# Altium footprint library SamacSys.PcbLib: 47 footprints (part 3 of 3)
Each footprint in its own frame and in the unit in brackets; x right, y up, seen from the top. Pads: shape width x height; smd on the part's side, far side on the other; paste and mask are expansions set on the pad; w line width, h text height; cw(c..) or ccw(c..) is an arc to the next point about the centre after c.
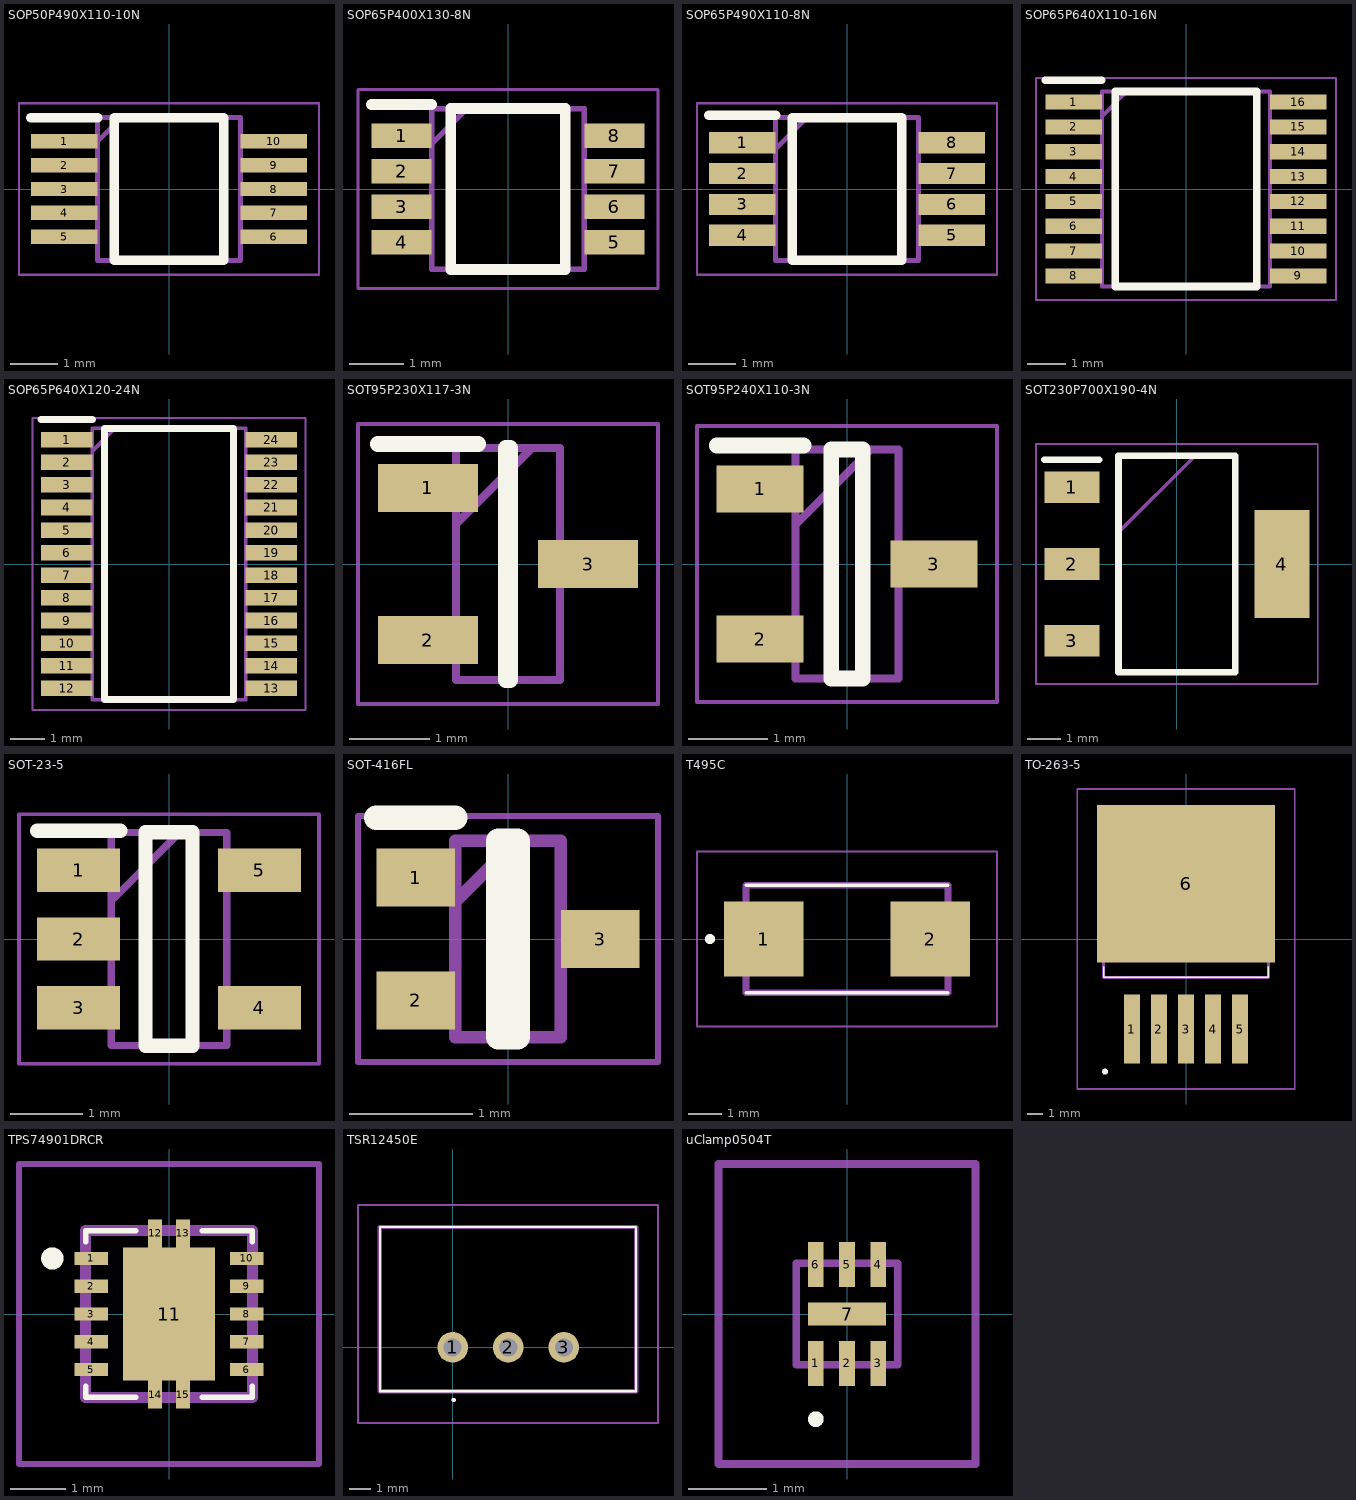
[diagram p2: the footprints below, top view; thin cyan lines are the x and y axes]

## SOP50P490X110-10N [mm]
pads (10):
  rect 1.4x0.3 smd: 1(-2.2,1) 2(-2.2,0.5) 3(-2.2,0) 4(-2.2,-0.5) 5(-2.2,-1) 6(2.2,-1) 7(2.2,-0.5) 8(2.2,0) 9(2.2,0.5) 10(2.2,1)
Top Overlay:
  lines w0.2: -2.9,1.5 -1.5,1.5 ; -1.15,-1.5 -1.15,1.5 1.15,1.5 1.15,-1.5 -1.15,-1.5
Mechanical 13:
  lines w0.1: -1.5,1 -1,1.5 ; -1.5,-1.5 -1.5,1.5 1.5,1.5 1.5,-1.5 -1.5,-1.5
Mechanical 15:
  lines w0.05: -3.15,-1.8 -3.15,1.8 3.15,1.8 3.15,-1.8 -3.15,-1.8
3D body "TCA9537DGSR.stp": height 1.1, standoff 0, extent -2.45,-1.5 2.45,1.5

## SOP65P400X130-8N [mm]
pads (8):
  rect 1.1x0.45 smd: 1(-1.95,0.975) 2(-1.95,0.325) 3(-1.95,-0.325) 4(-1.95,-0.975) 5(1.95,-0.975) 6(1.95,-0.325) 7(1.95,0.325) 8(1.95,0.975)
Top Overlay:
  lines w0.2: -2.5,1.55 -1.4,1.55 ; -1.05,-1.475 1.05,-1.475 1.05,1.475 -1.05,1.475 -1.05,-1.475
Mechanical 13:
  lines w0.1: -1.4,0.825 -0.75,1.475 ; -1.4,-1.475 1.4,-1.475 1.4,1.475 -1.4,1.475 -1.4,-1.475
Mechanical 15:
  lines w0.05: -2.75,-1.825 2.75,-1.825 2.75,1.825 -2.75,1.825 -2.75,-1.825
3D body "PCA9306DCTR.stp": height 1.3, standoff 0, extent -2,-1.475 2,1.475

## SOP65P490X110-8N [mm]
pads (8):
  rect 1.4x0.45 smd: 1(-2.2,0.975) 2(-2.2,0.325) 3(-2.2,-0.325) 4(-2.2,-0.975) 5(2.2,-0.975) 6(2.2,-0.325) 7(2.2,0.325) 8(2.2,0.975)
Top Overlay:
  lines w0.2: -2.9,1.55 -1.5,1.55 ; -1.15,-1.5 1.15,-1.5 1.15,1.5 -1.15,1.5 -1.15,-1.5
Mechanical 13:
  lines w0.1: -1.5,0.85 -0.85,1.5 ; -1.5,-1.5 1.5,-1.5 1.5,1.5 -1.5,1.5 -1.5,-1.5
Mechanical 15:
  lines w0.05: -3.15,-1.8 3.15,-1.8 3.15,1.8 -3.15,1.8 -3.15,-1.8
3D body "LM3488MM_NOPB.stp": height 1.1, standoff 0, extent -2.451,-1.499 2.451,1.499

## SOP65P640X110-16N [mm]
pads (16):
  rect 1.475x0.4 smd: 1(-2.938,2.275) 2(-2.938,1.625) 3(-2.938,0.975) 4(-2.938,0.325) 5(-2.938,-0.325) 6(-2.938,-0.975) 7(-2.938,-1.625) 8(-2.938,-2.275) 9(2.938,-2.275) 10(2.938,-1.625) 11(2.938,-0.975) 12(2.938,-0.325) 13(2.938,0.325) 14(2.938,0.975) 15(2.938,1.625) 16(2.938,2.275)
Top Overlay:
  lines w0.2: -3.675,2.85 -2.2,2.85 ; -1.85,-2.55 -1.85,2.55 1.85,2.55 1.85,-2.55 -1.85,-2.55
Mechanical 13:
  lines w0.1: -2.2,1.9 -1.55,2.55 ; -2.2,-2.55 -2.2,2.55 2.2,2.55 2.2,-2.55 -2.2,-2.55
Mechanical 15:
  lines w0.05: -3.925,-2.9 -3.925,2.9 3.925,2.9 3.925,-2.9 -3.925,-2.9
3D body "S-8254AAMFT-TB-U.stp": height 1.1, standoff 0, extent -3.2,-2.55 3.2,2.55

## SOP65P640X120-24N [mm]
pads (24):
  rect 1.475x0.45 smd: 1(-2.938,3.575) 2(-2.938,2.925) 3(-2.938,2.275) 4(-2.938,1.625) 5(-2.938,0.975) 6(-2.938,0.325) 7(-2.938,-0.325) 8(-2.938,-0.975) 9(-2.938,-1.625) 10(-2.938,-2.275) 11(-2.938,-2.925) 12(-2.938,-3.575) 13(2.938,-3.575) 14(2.938,-2.925) 15(2.938,-2.275) 16(2.938,-1.625) 17(2.938,-0.975) 18(2.938,-0.325) 19(2.938,0.325) 20(2.938,0.975) 21(2.938,1.625) 22(2.938,2.275) 23(2.938,2.925) 24(2.938,3.575)
Top Overlay:
  lines w0.2: -3.675,4.15 -2.2,4.15 ; -1.85,-3.9 1.85,-3.9 1.85,3.9 -1.85,3.9 -1.85,-3.9
Mechanical 13:
  lines w0.1: -2.2,3.25 -1.55,3.9 ; -2.2,-3.9 2.2,-3.9 2.2,3.9 -2.2,3.9 -2.2,-3.9
Mechanical 15:
  lines w0.05: -3.925,-4.2 3.925,-4.2 3.925,4.2 -3.925,4.2 -3.925,-4.2
3D body "TCA9548APW.stp": height 1.13, standoff 0, extent -3.2,-3.9 3.2,3.9

## SOT95P230X117-3N [mm]
pads (3):
  rect 1.25x0.6 smd: 1(-1,0.95) 2(-1,-0.95) 3(1,0)
Top Overlay:
  lines w0.2: -1.625,1.5 -0.375,1.5 ; -0.025,-1.45 0.025,-1.45 0.025,1.45 -0.025,1.45 -0.025,-1.45
Mechanical 13:
  lines w0.1: -0.65,0.5 0.3,1.45 ; -0.65,-1.45 0.65,-1.45 0.65,1.45 -0.65,1.45 -0.65,-1.45
Mechanical 15:
  lines w0.05: -1.875,-1.75 1.875,-1.75 1.875,1.75 -1.875,1.75 -1.875,-1.75
3D body "CDSOT23-SM712.stp": height 1.17, standoff 0, extent -1.148,-1.45 1.148,1.45

## SOT95P240X110-3N [mm]
pads (3):
  rect 1.1x0.6 smd: 1(-1.1,0.95) 2(-1.1,-0.95) 3(1.1,0)
Top Overlay:
  lines w0.2: -1.65,1.5 -0.55,1.5 ; -0.2,-1.45 0.2,-1.45 0.2,1.45 -0.2,1.45 -0.2,-1.45
Mechanical 13:
  lines w0.1: -0.65,0.5 0.3,1.45 ; -0.65,-1.45 0.65,-1.45 0.65,1.45 -0.65,1.45 -0.65,-1.45
Mechanical 15:
  lines w0.05: -1.9,-1.75 1.9,-1.75 1.9,1.75 -1.9,1.75 -1.9,-1.75
3D body "MMBT3904.stp": height 1.1, standoff 0, extent -1.2,-1.45 1.2,1.45

## SOT230P700X190-4N [mm]
pads (4):
  rect 1.65x0.95 smd: 1(-3.15,2.3) 2(-3.15,0) 3(-3.15,-2.3)
  rect 1.65x3.25 smd: 4(3.15,0)
Top Overlay:
  lines w0.2: -3.975,3.125 -2.325,3.125 ; -1.75,-3.25 1.75,-3.25 1.75,3.25 -1.75,3.25 -1.75,-3.25
Mechanical 13:
  lines w0.1: -1.75,0.95 0.55,3.25 ; -1.75,-3.25 1.75,-3.25 1.75,3.25 -1.75,3.25 -1.75,-3.25
Mechanical 15:
  lines w0.05: -4.225,-3.6 4.225,-3.6 4.225,3.6 -4.225,3.6 -4.225,-3.6
3D body "LD1117AS33TR.stp": height 1.9, standoff 0, extent -3.5,-3.25 3.5,3.25

## SOT-23-5 [mm]
pads (5):
  rect 1.15x0.6 smd: 1(-1.25,0.95) 2(-1.25,0) 3(-1.25,-0.95) 4(1.25,-0.95) 5(1.25,0.95)
Top Overlay:
  lines w0.2: -1.825,1.5 -0.675,1.5 ; -0.325,-1.475 -0.325,1.475 0.325,1.475 0.325,-1.475 -0.325,-1.475
Mechanical 13:
  lines w0.1: -0.8,0.525 0.15,1.475 ; -0.8,-1.475 -0.8,1.475 0.8,1.475 0.8,-1.475 -0.8,-1.475
Mechanical 15:
  lines w0.05: -2.075,-1.725 -2.075,1.725 2.075,1.725 2.075,-1.725 -2.075,-1.725
3D body "LDK120M-R.stp": height 1.45, standoff 0, extent -1.4,-1.475 1.4,1.475

## SOT-416FL [mm]
pads (3):
  rect 0.64x0.47 smd: 1(-0.75,0.5) 2(-0.75,-0.5) 3(0.75,0)
Top Overlay:
  lines w0.2: -1.07,0.985 -0.43,0.985 ; -0.08,-0.8 -0.08,0.8 0.08,0.8 0.08,-0.8 -0.08,-0.8
Mechanical 13:
  lines w0.1: -0.43,0.3 0.07,0.8 ; -0.43,-0.8 -0.43,0.8 0.43,0.8 0.43,-0.8 -0.43,-0.8
Mechanical 15:
  lines w0.05: -1.22,-1 -1.22,1 1.22,1 1.22,-1 -1.22,-1
3D body "DTC043ZEBTL.stp": height 0.85, standoff 0, extent -0.8,-0.8 0.8,0.8

## T495C [mm]
pads (2):
  rect 2.37x2.23 smd: 1(-2.47,0) 2(2.47,0)
Top Overlay:
  circle w0.2: c-4.07,0 r0.05
  lines w0.1: -3,-1.6 3,-1.6 ; -3,1.6 3,1.6
Mechanical 13:
  lines w0.2: -3,-1.6 3,-1.6 3,1.6 -3,1.6 -3,-1.6
Mechanical 15:
  lines w0.05: -4.455,-2.6 4.455,-2.6 4.455,2.6 -4.455,2.6 -4.455,-2.6
3D body "T495C475K035ATE450.stp": height 2.81, standoff 0, extent -3.15,-1.75 3.15,1.75

## TO-263-5 [mm]
pads (6):
  rect 1.02x4.318 smd: 1(-3.4,-5.664) 2(-1.7,-5.664) 3(0,-5.664) 4(1.7,-5.664) 5(3.4,-5.664)
  rect 11.176x9.906 smd: 6(0,3.482)
Top Overlay:
  lines w0.1: -5.181,-1.743 -5.181,-2.412 5.181,-2.412 5.181,-1.743
  lines w0.2: -5.001,-8.343 cw(c-5.091,-8.343) -5.181,-8.343 cw(c-5.09,-8.343) -4.999,-8.343
Mechanical 13:
  lines w0.2: -5.181,-2.412 -5.181,6.757 5.181,6.757 5.181,-2.412 -5.181,-2.412
Mechanical 15:
  lines w0.1: -6.842,-9.433 -6.842,9.433 6.842,9.433 6.842,-9.433 -6.842,-9.433
3D body "MIC29302WU-TR.stp": height 4.42, standoff 0, extent -5.029,-7.306 5.029,7.299

## TPS74901DRCR [mm]
pads (15):
  rect 0.6x0.24 smd: 1(-1.4,1) 2(-1.4,0.5) 3(-1.4,0) 4(-1.4,-0.5) 5(-1.4,-1) 6(1.4,-1) 7(1.4,-0.5) 8(1.4,0) 9(1.4,0.5) 10(1.4,1)
  rect 1.65x2.4 smd: 11(0,0)
  rect 0.25x0.5 smd: 12(-0.25,1.45) 13(0.25,1.45) 14(-0.25,-1.45) 15(0.25,-1.45)
Top Overlay:
  lines w0.1: -1.5,-1.3 -1.5,-1.5 -0.6,-1.5 ; -1.5,1.3 -1.5,1.5 -0.6,1.5 ; 0.6,-1.5 1.5,-1.5 1.5,-1.3 ; 0.6,1.5 1.5,1.5 1.5,1.3
  lines w0.2: -2.1,0.9 cw(c-2.1,1) -2.1,1.1 cw(c-2.1,1) -2.1,0.9
Mechanical 13:
  lines w0.2: -1.5,-1.5 1.5,-1.5 1.5,1.5 -1.5,1.5 -1.5,-1.5
Mechanical 15:
  lines w0.1: -2.7,-2.7 2.7,-2.7 2.7,2.7 -2.7,2.7 -2.7,-2.7
3D body "TPS16413DRCR.stp": height 0.8, standoff 0, extent -1.5,-1.5 1.5,1.5

## TSR12450E [mm]
pads (3):
  round 1.4 hole 0.83: 1(0,0) 2(2.54,0) 3(5.08,0)
Top Overlay:
  lines w0.1: -3.32,-2 -3.32,5.5 8.38,5.5 8.38,-2 -3.32,-2 ; 0,-2.4 cw(c0.05,-2.4) 0.1,-2.4 cw(c0.05,-2.4) 0,-2.4
Mechanical 13:
  lines w0.2: -3.32,-2 -3.32,5.5 8.38,5.5 8.38,-2 -3.32,-2
Mechanical 15:
  lines w0.1: -4.32,-3.45 -4.32,6.5 9.38,6.5 9.38,-3.45 -4.32,-3.45
3D body "TSR_1-2450E.stp": height 10.11, standoff -4.19, extent -3.268,-1.807 8.332,5.693

## uClamp0504T [mm]
pads (7):
  rect 0.2x0.58 smd: 1(-0.4,-0.635) 2(0,-0.635) 3(0.4,-0.635) 4(0.4,0.635) 5(0,0.635) 6(-0.4,0.635)
  rect 1x0.3 smd: 7(0,0)
Top Overlay:
  lines w0.1: -0.4,-1.4 ccw(c-0.4,-1.35) -0.4,-1.3 ccw(c-0.4,-1.35) -0.4,-1.4
Mechanical 13:
  lines w0.1: -0.65,-0.65 -0.65,0.65 0.65,0.65 0.65,-0.65 -0.65,-0.65
Mechanical 15:
  lines w0.1: -1.65,-1.925 -1.65,1.925 1.65,1.925 1.65,-1.925 -1.65,-1.925
3D body "UCLAMP0504T.stp": height 0.53, standoff 0, extent -0.65,-0.905 0.65,0.905